# EAGLE library part TA20-11GWA (library TA20-11GWA)
LED Displays & Accessories Check prices <https://pricing.snapeda.com/parts/TA20-11GWA/Kingbright/view-part?ref=eda>
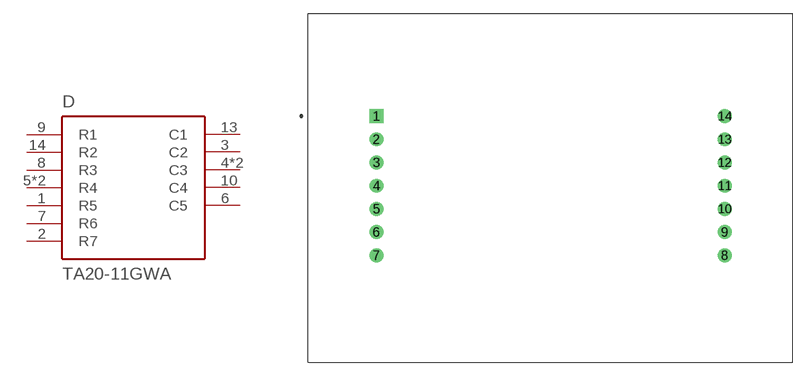
[diagram p0: symbol with the pads of LED_TA20-11GWA; footprint LED_TA20-11GWA]

Designator prefix D

## TA20-11GWA (Availability: In Stock; Description: Dot Matrix Display Module 5 x 7 Common Cathode Row, Common Anode Column Green 2.2V 1.50 L x 2.09 W x 0.33 H (38.10mm x 53.10mm x 8.50mm); MF: Kingbright; MP: TA20-11GWA; Package: DIP-40 Kingbright; Price: None)  [LED_TA20-11GWA]
1  R5  pas
2  R7  pas
3  C2  pas
4  C3  pas
5  R4  pas
6  C5  pas
7  R6  pas
8  R3  pas
9  R1  pas
10  C4  pas
11  C3  pas
12  R4  pas
13  C1  pas
14  R2  pas

## Footprint LED_TA20-11GWA (pad centres in mm)
drill 1 square: 1 -19.05,7.62
drill 1: 2 -19.05,5.08; 3 -19.05,2.54; 4 -19.05,0; 5 -19.05,-2.54; 6 -19.05,-5.08; 7 -19.05,-7.62; 8 19.05,-7.62; 9 19.05,-5.08; 10 19.05,-2.54; 11 19.05,0; 12 19.05,2.54; 13 19.05,5.08; 14 19.05,7.62